# EAGLE library part 349701A (library Doc-Test_Interface)
DMM Switch Matrix
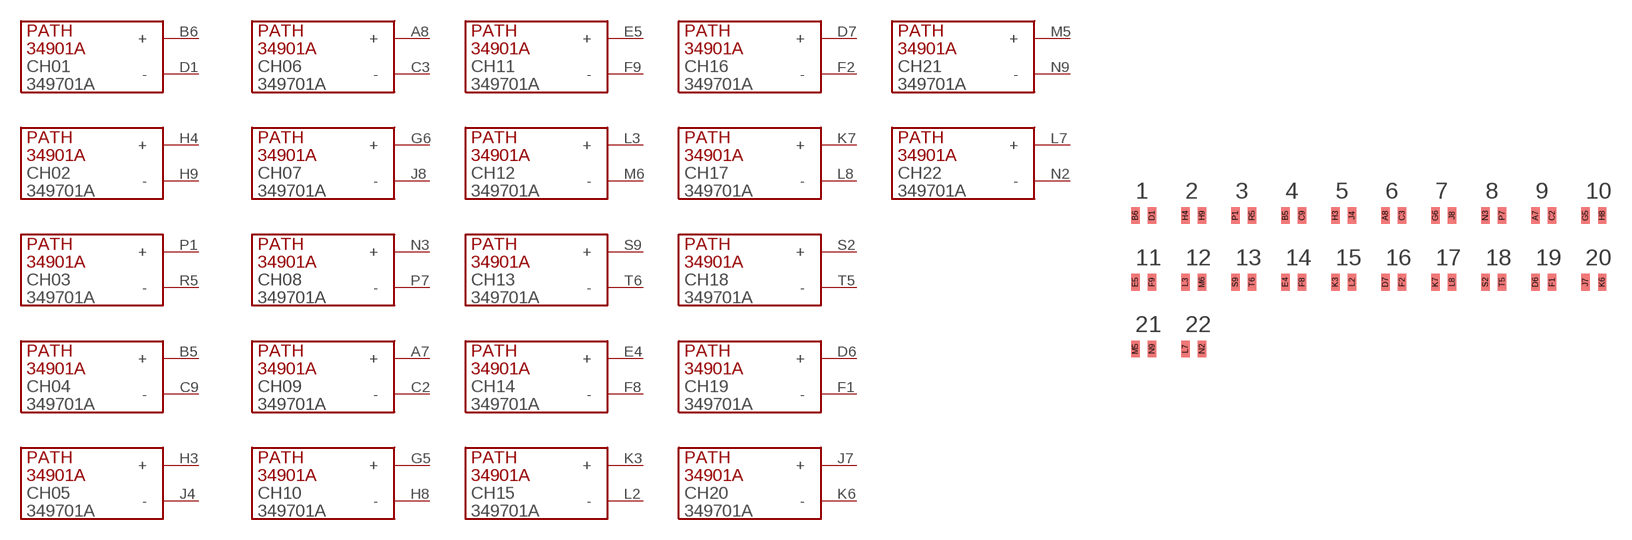
[diagram p0: symbol with the pads of PATHPAC; footprint PATHPAC]

Designator prefix CH; gates 01=PATH 02=PATH 03=PATH 04=PATH 05=PATH 06=PATH 07=PATH 08=PATH 09=PATH 10=PATH 11=PATH 12=PATH 13=PATH 14=PATH 15=PATH 16=PATH 17=PATH 18=PATH 19=PATH 20=PATH 21=PATH 22=PATH

## 349701A  [PATHPAC]
A7  09:+  in
A8  06:+  in
B5  04:+  in
B6  01:+  in
C2  09:-  in
C3  06:-  in
C9  04:-  in
D1  01:-  in
D6  19:+  in
D7  16:+  in
E4  14:+  in
E5  11:+  in
F1  19:-  in
F2  16:-  in
F8  14:-  in
F9  11:-  in
G5  10:+  in
G6  07:+  in
H3  05:+  in
H4  02:+  in
H8  10:-  in
H9  02:-  in
J4  05:-  in
J7  20:+  in
J8  07:-  in
K3  15:+  in
K6  20:-  in
K7  17:+  in
L2  15:-  in
L3  12:+  in
L7  22:+  in
L8  17:-  in
M5  21:+  in
M6  12:-  in
N2  22:-  in
N3  08:+  in
N9  21:-  in
P1  03:+  in
P7  08:-  in
R5  03:-  in
S2  18:+  in
S9  13:+  in
T5  18:-  in
T6  13:-  in

## Footprint PATHPAC (pad centres in mm)
smd 0.635 x 1.27: A7 22.86,2.54; A8 11.43,2.54; B5 3.81,2.54; B6 -7.62,2.54; C2 24.13,2.54; C3 12.7,2.54; C9 5.08,2.54; D1 -6.35,2.54; D6 22.86,-2.54; D7 11.43,-2.54; E4 3.81,-2.54; E5 -7.62,-2.54; F1 24.13,-2.54; F2 12.7,-2.54; F8 5.08,-2.54; F9 -6.35,-2.54; G5 26.67,2.54; G6 15.24,2.54; H3 7.62,2.54; H4 -3.81,2.54; H8 27.94,2.54; H9 -2.54,2.54; J4 8.89,2.54; J7 26.67,-2.54; J8 16.51,2.54; K3 7.62,-2.54; K6 27.94,-2.54; K7 15.24,-2.54; L2 8.89,-2.54; L3 -3.81,-2.54; L7 -3.81,-7.62; L8 16.51,-2.54; M5 -7.62,-7.62; M6 -2.54,-2.54; N2 -2.54,-7.62; N3 19.05,2.54; N9 -6.35,-7.62; P1 0,2.54; P7 20.32,2.54; R5 1.27,2.54; S2 19.05,-2.54; S9 0,-2.54; T5 20.32,-2.54; T6 1.27,-2.54